# EAGLE library part SA612AN_01,112 (library SA612AN_01_112)
NXP SA612AN, Mixer Circuit Gain=17 dB 4.5 8 V 8-Pin PDIP Source: Datasheet <https://datasheet.datasheetarchive.com/originals/distributors/Datasheets_SAMA/f801acdc6cb9d9748f3d91798dd5a70c.pdf>
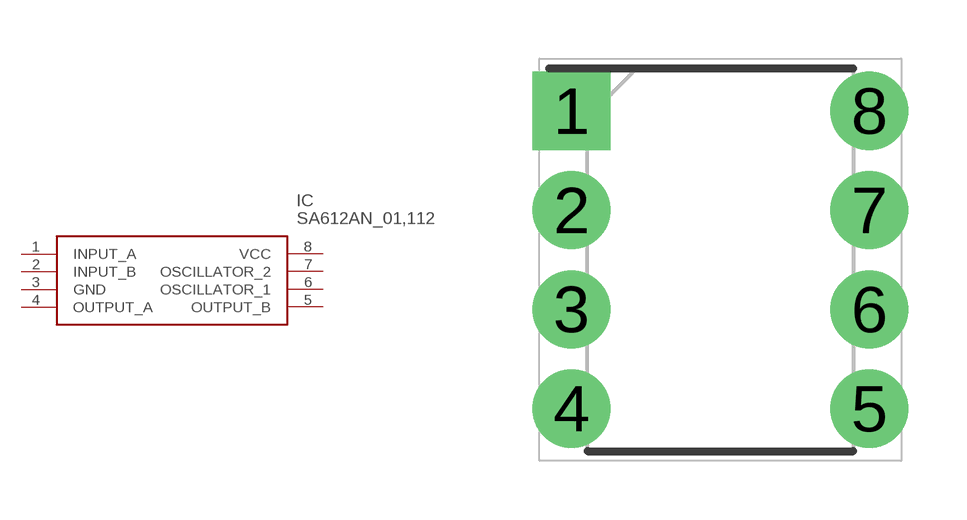
[diagram p0: symbol with the pads of DIP762W53P254L950H420Q8N; footprint DIP762W53P254L950H420Q8N]

Designator prefix IC

## SA612AN_01,112 (DESCRIPTION: NXP SA612AN, Mixer Circuit Gain=17 dB 4.5 8 V 8-Pin PDIP; HEIGHT: 4.2mm; MANUFACTURER_NAME: Nexperia; MANUFACTURER_PART_NUMBER: SA612AN/01,112; MOUSER_PART_NUMBER: 771-SA612AN/01; MOUSER_PRICE-STOCK: https://www.mouser.com/Search/Refine.aspx?Keyword=771-SA612AN%2F01)  [DIP762W53P254L950H420Q8N]
1  INPUT_A
2  INPUT_B
3  GND
4  OUTPUT_A
5  OUTPUT_B
6  OSCILLATOR_1
7  OSCILLATOR_2
8  VCC

## Footprint DIP762W53P254L950H420Q8N (pad centres in mm)
DIP-8
drill 1 pad 2 square: 1 -3.81,3.81
drill 1 pad 2: 2 -3.81,1.27; 3 -3.81,-1.27; 4 -3.81,-3.81; 5 3.81,-3.81; 6 3.81,-1.27; 7 3.81,1.27; 8 3.81,3.81